# Altium schematic symbol library Capacitors.SchLib: 161 symbols (part 4 of 6)
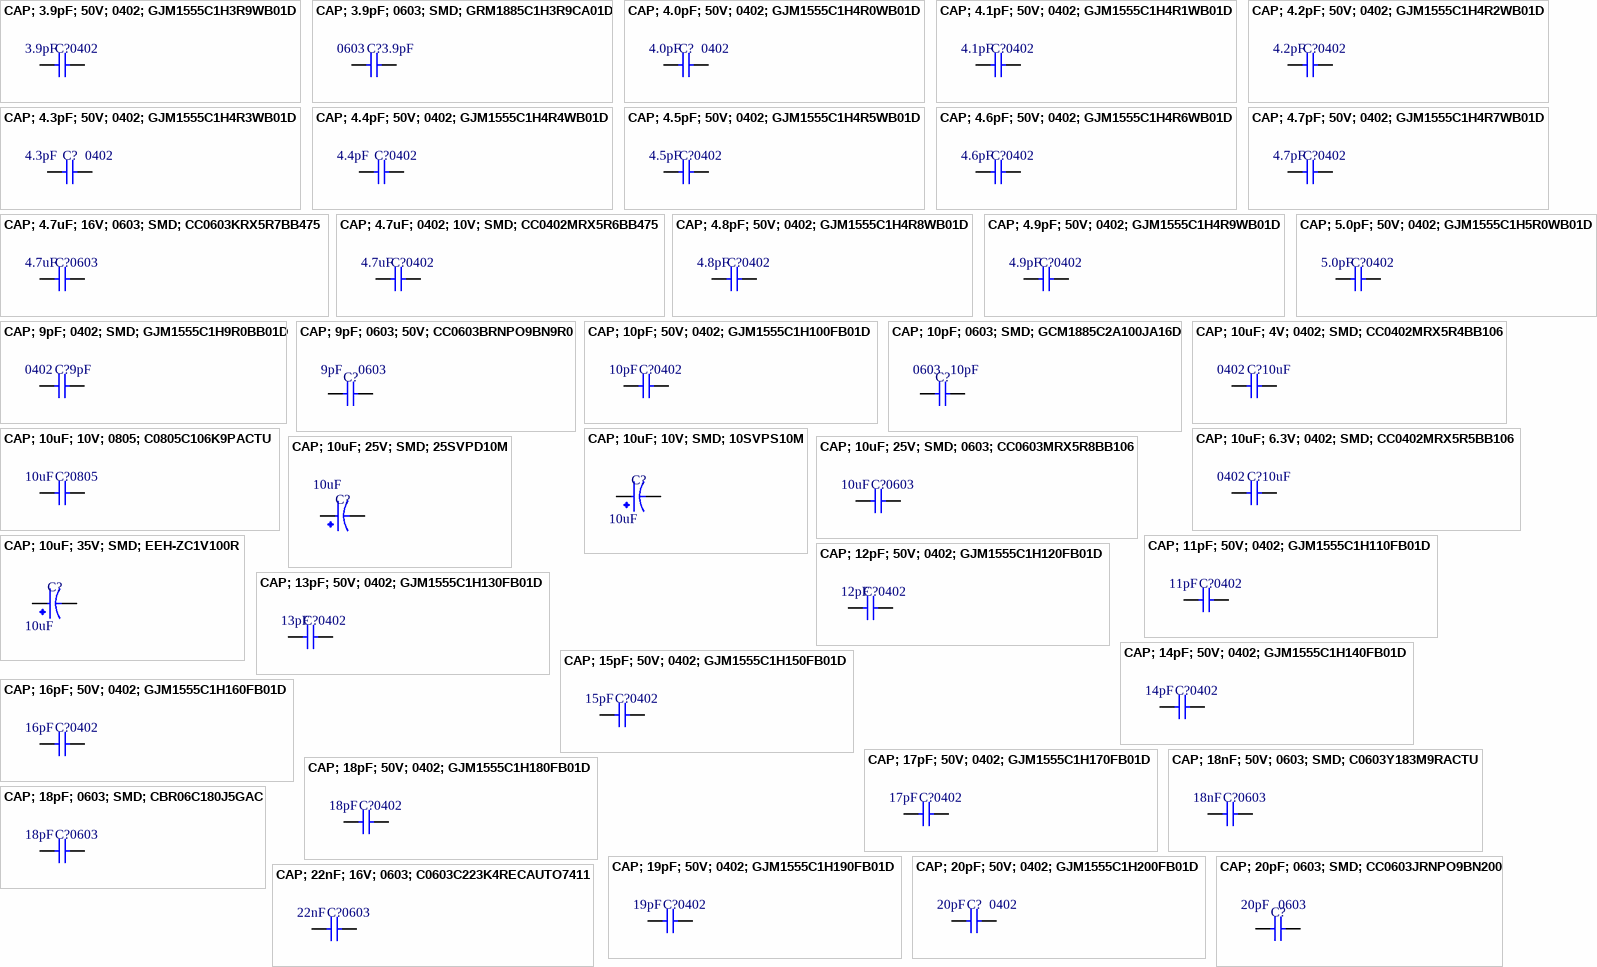
[diagram p7: symbols CAP; 3.9pF; 50V; 0402; GJM1555C1H3R9WB01D to CAP; 22nF; 16V; 0603; C0603C223K4RECAUTO7411]

## CAP; 10pF; 0603; SMD; GCM1885C2A100JA16D
designator C?, comment value 10pF  Package: 0603  (hidden comment: 10 pF ±5% 100V Ceramic Capacitor C0G, NP0 0603 (1608 Metric))
Multilayer Ceramic Capacitor, 10 pF, 100 V, ï¿½ 5%, C0G (NP0), 0603 [1608 Metric]; Manufacturer: Murata; Manufacturer Part Number: GCM1885C2A100JA16D; Material: 4241ConductorMaterial; Temperature Coefficient: 30ppm/°C; Supplier: Mouser; Supplier Part Number: 81-GCM1885C2A100JA6D; RoHS: Yes; Category: Ceramic Capacitors; Stock: 55413; Pricing: 1=0.1, 10=0.055, 50=0.055, 100=0.032, 1000=0.022, 10000=0.01 (USD); Voltage Rating (DC): 100V; Lead Free: 5697LeadFree; ComponentLink1URL: https://datasheet.ciiva.com/133/product-133480.pdf?src-supplier=Digikey; ComponentLink1Description: https://datasheet.ciiva.com/133/product-133480.pdf?src-supplier=Digikey; ComponentLink2URL: https://datasheet.ciiva.com/133/product-133481.pdf?src-supplier=Digikey; ComponentLink2Description: https://datasheet.ciiva.com/133/product-133481.pdf?src-supplier=Digikey; ComponentLink3URL: https://datasheet.ciiva.com/133/product-133482.pdf?src-supplier=Digikey; ComponentLink3Description: https://datasheet.ciiva.com/133/product-133482.pdf?src-supplier=Digikey; ComponentLink4URL: https://datasheet.ciiva.com/18183/getdatasheetpartid-307287-18183583.pdf?src-supplier=Verical; ComponentLink4Description: https://datasheet.ciiva.com/18183/getdatasheetpartid-307287-18183583.pdf?src-supplier=Verical; ComponentLink5URL: https://datasheet.ciiva.com/11607/product-11607353.pdf?src-supplier=Avnet; ComponentLink5Description: https://datasheet.ciiva.com/11607/product-11607353.pdf?src-supplier=Avnet
footprint SMD-CAP-0603-ME
pins: 1, 2

## CAP; 10uF; 4V; 0402; SMD; CC0402MRX5R4BB106
designator C?, comment value 10uF  Package: 0402  (hidden comment: 10 µF ±20% 4V Ceramic Capacitor X5R 0402 (1005 Metric))
Cap Ceramic 10uF 4V X5R 20% Pad SMD 0402 85C Automotive T/R; Manufacturer: Yageo; Manufacturer Part Number: CC0402MRX5R4BB106; Supplier: Mouser; Supplier Part Number: 603-CC0402MR4BB106; RoHS: Yes; Category: Ceramic Capacitors; Stock: 52723; Pricing: 1=0.13, 10=0.083, 50=0.083, 100=0.05, 1000=0.035, 10000=0.025 (USD); Mounting Technology: Surface Mount; Case/Package: 0402; Case Code (Imperial): 0402; Case Code (Metric): 1005; Min Operating Temperature: -55°C; Max Operating Temperature: 85°C; Packaging: Cut Tape; Voltage Rating: 4V; Tolerance: 20%; Series: CC; Length: 0.039inch; Width: 0.02inch; Thickness: 0.022inch; RoHS Compliant: Yes; ComponentLink1URL: http://www.yageo.com/documents/recent/UPY-GPHC_X5R_4V-to-50V_23.pdf?src-supplier=Digikey; ComponentLink1Description: http://www.yageo.com/documents/recent/UPY-GPHC_X5R_4V-to-50V_23.pdf?src-supplier=Digikey; ComponentLink2URL: http://www.yageo.com/documents/recent/UPY-GPHC_X5R_4V-to-50V_25.pdf?src-supplier=Digikey; ComponentLink2Description: http://www.yageo.com/documents/recent/UPY-GPHC_X5R_4V-to-50V_25.pdf?src-supplier=Digikey; ComponentLink3URL: https://datasheet.octopart.com/CC0402MRX5R4BB106-Yageo-datasheet-140260304.pdf?src-supplier=Newark; ComponentLink3Description: https://datasheet.octopart.com/CC0402MRX5R4BB106-Yageo-datasheet-140260304.pdf?src-supplier=Newark; ComponentLink4URL: https://datasheet.octopart.com/CC0402MRX5R4BB106-Yageo-datasheet-181967529.pdf?src-supplier=Farnell; ComponentLink4Description: https://datasheet.octopart.com/CC0402MRX5R4BB106-Yageo-datasheet-181967529.pdf?src-supplier=Farnell; ComponentLink5URL: https://datasheet.octopart.com/CC0402MRX5R4BB106-Yageo-datasheet-181967529.pdf?src-supplier=Element14; ComponentLink5Description: https://datasheet.octopart.com/CC0402MRX5R4BB106-Yageo-datasheet-181967529.pdf?src-supplier=Element14
footprint SMD-CAP-0402-YAGEO
pins: 1, 2

## CAP; 10uF; 6.3V; 0402; SMD; CC0402MRX5R5BB106
designator C?, comment value 10uF  Package: 0402  (hidden comment: 10 µF ±20% 6.3V Ceramic Capacitor X5R 0402 (1005 Metric))
0402 10 uF 6.3 V ±20 % Tolerance X5R SMT Multilayer Ceramic Capacitor; Manufacturer: Yageo; Manufacturer Part Number: CC0402MRX5R5BB106; Supplier: Arrow Electronics; Supplier Part Number: CC0402MRX5R5BB106; RoHS: Yes; Category: Ceramic Capacitors; Stock: 420000; Pricing: 100000=0.025 (USD); Mounting Technology: Surface Mount; Case/Package: 0402; Case Code (Metric): 1005; Case Code (Imperial): 0402; Weight: 2.3E-05oz; Min Operating Temperature: -55°C; Max Operating Temperature: 85°C; Tolerance: 20%; Packaging: Tape and Reel; Dielectric: X5R; Voltage Rating: 6.3V; Termination: SMD/SMT; Voltage Rating (DC): 6.3V; Package Quantity: 10000; Series: CC; Lead Free: Lead Free; Halogen Free: Halogen Free; RoHS Compliant: Yes; ComponentLink1URL: http://www.yageo.com/documents/recent/UPY-GPHC_X5R_4V-to-50V_25.pdf?src-supplier=Digikey; ComponentLink1Description: http://www.yageo.com/documents/recent/UPY-GPHC_X5R_4V-to-50V_25.pdf?src-supplier=Digikey; ComponentLink2URL: https://datasheet.octopart.com/CC0402MRX5R5BB106-Yageo-datasheet-140260304.pdf?src-supplier=Newark; ComponentLink2Description: https://datasheet.octopart.com/CC0402MRX5R5BB106-Yageo-datasheet-140260304.pdf?src-supplier=Newark; ComponentLink3URL: https://datasheet.octopart.com/CC0402MRX5R5BB106-Yageo-datasheet-137875056.pdf?src-supplier=Future+Electronics; ComponentLink3Description: https://datasheet.octopart.com/CC0402MRX5R5BB106-Yageo-datasheet-137875056.pdf?src-supplier=Future+Electronics; ComponentLink4URL: http://www.yageo.com/documents/recent/UPY-GPHC_X5R_4V-to-50V_25.pdf?src-supplier=Mouser; ComponentLink4Description: http://www.yageo.com/documents/recent/UPY-GPHC_X5R_4V-to-50V_25.pdf?src-supplier=Mouser; ComponentLink5URL: http://www.yageo.com/documents/recent/UPY-GPHC_X5R_4V-to-50V_25.pdf?src-supplier=TTI; ComponentLink5Description: http://www.yageo.com/documents/recent/UPY-GPHC_X5R_4V-to-50V_25.pdf?src-supplier=TTI
footprint SMD-CAP-0402-YAGEO
pins: 1, 2

## CAP; 10uF; 10V; 0805; C0805C106K9PACTU
designator C?, comment value 10uF  Package: 0805  (hidden comment: 10 µF ±10% 6.3V Ceramic Capacitor X5R 0805 (2012 Metric))
Multilayer Ceramic Capacitor, 10 uF, 6.3 V, ï¿½ 10%, X5R, 0805 [2012 Metric]; Manufacturer: KEMET; Manufacturer Part Number: C0805C106K9PACTU; Material: 4241ConductorMaterial; Dissipation Factor: 5%; Designer: TVBac; Supplier: Mouser; Supplier Part Number: 80-C0805C106K9P; RoHS: Yes; Category: Ceramic Capacitors; Stock: 133022; Pricing: 1=0.12, 10=0.074, 50=0.074, 100=0.044, 1000=0.033, 3000=0.026, 9000=0.025, 10000=0.025, 24000=0.023, 45000=0.022, 99000=0.019 (USD); Mounting Technology: Surface Mount; Case/Package: 0805; Pins: 2; Case Code (Imperial): 0805; Case Code (Metric): 2012; Contact Material: Tin; Dielectric Material: 4241ConductorMaterial; Min Operating Temperature: -55°C; Max Operating Temperature: 85°C; Tolerance: 10%; Packaging: Tape and Reel; Package Quantity: 3000; Voltage Rating: 6.3V; Voltage Rating (DC): 6.3V; Dielectric: X5R; Termination: SMD/SMT; Series: SMD Comm X5R; Construction: Flat; Voltage Rating (AC): 6.3V; Length: 2mm; Width: 1.2mm; Height: 1.25mm; Depth: 1.25mm; Lead Pitch: 0.75mm; Radiation Hardening: No; Reach SVHC Compliant: No; RoHS Compliant: Yes; Lead Free: 5697LeadFree; ComponentLink1URL: https://datasheet.ciiva.com/7842/kem-c1006-x5r-smd-7842200.pdf?src-supplier=Element14; ComponentLink1Description: https://datasheet.ciiva.com/7842/kem-c1006-x5r-smd-7842200.pdf?src-supplier=Element14; ComponentLink2URL: https://datasheet.ciiva.com/7842/kem-c1006-x5r-smd-7842201.pdf?src-supplier=Element14; ComponentLink2Description: https://datasheet.ciiva.com/7842/kem-c1006-x5r-smd-7842201.pdf?src-supplier=Element14; ComponentLink3URL: https://datasheet.ciiva.com/18193/getdatasheetpartid-320652-18193500.pdf?src-supplier=Verical; ComponentLink3Description: https://datasheet.ciiva.com/18193/getdatasheetpartid-320652-18193500.pdf?src-supplier=Verical; ComponentLink4Description: Link Digikey; ComponentLink4URL: https://www.digikey.com/en/products/detail/kemet/C0805C106K9PAC7800/551604
footprint SMD-CAP-0805-KEMET
pins: 1, 2

## CAP; 10uF; 10V; SMD; 10SVPS10M
designator C?, comment value 10uF  (hidden comment: 10 µF 10 V Aluminum - Polymer Capacitors Radial, Can - SMD 220mOhm 5000 Hrs @ 105°C)
Cap Aluminum Polymer 10uF 10VDC 20% (4 X 5.4mm) SMD 0.22 Ohm 700mA 5000h 105°C T/R; Manufacturer: Panasonic; Manufacturer Part Number: 10SVPS10M; Material: 4242ConductorMaterial; Voltage Rating (DC): 10V; Dissipation Factor: 10%; Leakage Current: 50uA; Designer: TVBac; Supplier: Digikey; Supplier Part Number: P19127CT-ND; RoHS: Yes; Category: Polymer Capacitors; Stock: 1082; Pricing: 1=1.34, 10=0.927, 50=0.836, 100=0.745, 500=0.594, 1000=0.525 (USD); Height: 5.5mm; ComponentLink1URL: https://datasheet.octopart.com/10SVPS10M-Panasonic-datasheet-66554731.pdf?src-supplier=Farnell; ComponentLink1Description: https://datasheet.octopart.com/10SVPS10M-Panasonic-datasheet-66554731.pdf?src-supplier=Farnell; ComponentLink2URL: https://industrial.panasonic.com/cdbs/www-data/pdf/AAB8000/AAB8000C232.pdf?src-supplier=Digikey; ComponentLink2Description: https://industrial.panasonic.com/cdbs/www-data/pdf/AAB8000/AAB8000C232.pdf?src-supplier=Digikey; ComponentLink3URL: https://industrial.panasonic.com/cdbs/www-data/pdf/AAB8000/AAB8000COL87.pdf?src-supplier=Digikey; ComponentLink3Description: https://industrial.panasonic.com/cdbs/www-data/pdf/AAB8000/AAB8000COL87.pdf?src-supplier=Digikey; ComponentLink4URL: https://datasheet.octopart.com/10SVPS10M-Panasonic-datasheet-136608599.pdf?src-supplier=Element14; ComponentLink4Description: https://datasheet.octopart.com/10SVPS10M-Panasonic-datasheet-136608599.pdf?src-supplier=Element14; ComponentLink5URL: https://datasheet.octopart.com/10SVPS10M-Panasonic-datasheet-46913367.pdf?src-supplier=Newark; ComponentLink5Description: https://datasheet.octopart.com/10SVPS10M-Panasonic-datasheet-46913367.pdf?src-supplier=Newark
footprint SMD-DxLxW-4.0x4.3x4.3-PEC
pins: 1, 2

## CAP; 10uF; 25V; SMD; 25SVPD10M
designator C?, comment value 10uF  (hidden comment: 10 µF 25 V Aluminum - Polymer Capacitors Radial, Can - SMD 65mOhm 2000 Hrs @ 125°C)
Cap Aluminum Polymer 10uF 25VDC 20% (6.3 X 5.9mm) SMD 0.065 Ohm 474mA 2000h 125C Automotive T/R; Manufacturer: Panasonic; Manufacturer Part Number: 25SVPD10M; Dielectric Material: Aluminium; Voltage Rating: 25V; ESR (Equivalent Series Resistance): 65mR; Leakage Current: 50uA; Life (Hours): 2000Hour; Dissipation Factor: 10%; Designer: TVBac; Supplier: Digikey; Supplier Part Number: PCE5077CT-ND; RoHS: Yes; Category: Polymer Capacitors; Stock: 2340; Pricing: 1=1.63, 10=1.033, 50=0.7914, 100=0.7159, 500=0.5873 (USD); Mounting Technology: Surface Mount; Case/Package: Radial; Pins: 6; Material: Polymer; Min Operating Temperature: -55°C; Max Operating Temperature: 125°C; Package Quantity: 1000; Packaging: Tape and Reel; Voltage: 25V; Termination: SMD/SMT; Tolerance: 20%; Voltage Rating (DC): 25V; Series: SVPD; Construction: Cylindrical; Diameter: 6.3mm; Length: 5.9mm; Width: 6.6mm; Height: 6.6mm; Lead Pitch: 2.1mm; Reach SVHC Compliant: No; RoHS Compliant: Yes; ComponentLink1URL: http://www.farnell.com/datasheets/1950074.pdf?src-supplier=Farnell; ComponentLink1Description: http://www.farnell.com/datasheets/1950074.pdf?src-supplier=Farnell; ComponentLink2URL: http://www.mouser.com/ds/2/315/Panasonic_Oscon_SVPD_Series-341062.pdf?src-supplier=Mouser; ComponentLink2Description: http://www.mouser.com/ds/2/315/Panasonic_Oscon_SVPD_Series-341062.pdf?src-supplier=Mouser; ComponentLink3URL: http://industrial.panasonic.com/cdbs/www-data/pdf/AAB8000/AAB8000C181.pdf?src-supplier=Digikey; ComponentLink3Description: http://industrial.panasonic.com/cdbs/www-data/pdf/AAB8000/AAB8000C181.pdf?src-supplier=Digikey; ComponentLink4URL: https://datasheet.octopart.com/25SVPD10M-Panasonic-datasheet-46913366.pdf?src-supplier=Newark; ComponentLink4Description: https://datasheet.octopart.com/25SVPD10M-Panasonic-datasheet-46913366.pdf?src-supplier=Newark; ComponentLink5URL: http://www.farnell.com/datasheets/1950074.pdf?src-supplier=Element14; ComponentLink5Description: http://www.farnell.com/datasheets/1950074.pdf?src-supplier=Element14; ComponentLink6URL: https://datasheet.octopart.com/25SVPD10M-Panasonic-datasheet-151949919.pdf?src-supplier=TME; ComponentLink6Description: https://datasheet.octopart.com/25SVPD10M-Panasonic-datasheet-151949919.pdf?src-supplier=TME; ComponentLink7Description: Link Digikey; ComponentLink7URL: https://www.digikey.com/en/products/detail/panasonic-electronic-components/25SVPD10M/4833023
footprint SMD-DxLxW-6.3x6.6x6.6-PEC
pins: 1, 2

## CAP; 10uF; 25V; SMD; 0603; CC0603MRX5R8BB106
designator C?, comment value 10uF  Package: 0603  (hidden comment: 10 µF ±20% 25V Ceramic Capacitor X5R 0603 (1608 Metric))
Multilayer Ceramic Capacitor, 10 uF, 25 V, ï¿½ 20%, X5R, 0603 [1608 Metric]; Manufacturer: Yageo; Manufacturer Part Number: CC0603MRX5R8BB106; Designer: TVBac; Supplier: Future Electronics; Supplier Part Number: 3086968; RoHS: Yes; Category: Ceramic Capacitors; Stock: 296000; Pricing: 4000=0.155, 8000=0.153, 12000=0.151 (USD); Mounting Technology: Surface Mount; Case/Package: 0603; Case Code (Imperial): 0603; Case Code (Metric): 1608; Min Operating Temperature: -55°C; Max Operating Temperature: 85°C; Packaging: Cut Tape; Tolerance: 20%; Voltage Rating: 25V; Series: CC; Dielectric: X5R; Voltage Rating (DC): 25V; RoHS Compliant: Yes; Halogen Free: Halogen Free; Lead Free: Lead Free; ComponentLink1URL: https://www.yageo.com/upload/media/product/productsearch/datasheet/mlcc/UPY-GPHC_X5R_4V-to-50V_26.pdf?src-supplier=Digikey; ComponentLink1Description: https://www.yageo.com/upload/media/product/productsearch/datasheet/mlcc/UPY-GPHC_X5R_4V-to-50V_26.pdf?src-supplier=Digikey; ComponentLink2URL: https://datasheet.octopart.com/CC0603MRX5R8BB106-Yageo-datasheet-182965619.pdf?src-supplier=Farnell; ComponentLink2Description: https://datasheet.octopart.com/CC0603MRX5R8BB106-Yageo-datasheet-182965619.pdf?src-supplier=Farnell; ComponentLink3Description: Link Digikey; ComponentLink3URL: https://www.digikey.com/en/products/detail/yageo/CC0603MRX5R8BB106/7164378
footprint SMD-CAP-0603-YAGEO
pins: 1, 2

## CAP; 10uF; 35V; SMD; EEH-ZC1V100R
designator C?, comment value 10uF  (hidden comment: 10 µF 35 V Aluminum - Polymer Capacitors Radial, Can - SMD 100mOhm 4000 Hrs @ 125°C)
Cap Aluminum Polymer 10uF 35V 20% Cylindrical 100m Ohm 550mA 4000 hr 125°C Emboss T/R; Manufacturer: Panasonic; Manufacturer Part Number: EEH-ZC1V100R; Designer: TVBac; Supplier: Digikey; Supplier Part Number: 10-EEH-ZC1V100RCT-ND; RoHS: Yes; Stock: 1875; Pricing: 1=1.23, 10=0.922, 50=0.8414, 100=0.6893, 500=0.55016 (USD); RoHS Compliant: Yes; ComponentLink1URL: https://na.industrial.panasonic.com/file-download/51?src-supplier=Digikey; ComponentLink1Description: https://na.industrial.panasonic.com/file-download/51?src-supplier=Digikey; ComponentLink2URL: https://datasheet.octopart.com/EEHZC1V100R-Panasonic-datasheet-137716606.pdf?src-supplier=TME; ComponentLink2Description: https://datasheet.octopart.com/EEHZC1V100R-Panasonic-datasheet-137716606.pdf?src-supplier=TME; ComponentLink3Description: Link Digikey; ComponentLink3URL: https://www.digikey.com/en/products/detail/panasonic-electronic-components/EEH-ZC1V100R/10292388
footprint SMD-DxLxW-5.0x5.3x5.3-PEC
pins: 1, 2

## CAP; 11pF; 50V; 0402; GJM1555C1H110FB01D
designator C?, comment value 11pF  Package: 0402  (hidden comment: Cap Ceramic Monolithic 11pF 50VDC 1% SMD Paper T/R)
Manufacturer: Murata; Manufacturer Part Number: GJM1555C1H110FB01D; Supplier: Mouser; Supplier Part Number: 81-GJM1555C1H110FB1D; RoHS: Yes; Category: Ceramic Capacitors; Stock: 9932; Pricing: 1=0.12, 10=0.075, 50=0.075, 100=0.046, 1000=0.03, 10000=0.02 (USD)
footprint SMD-CAP-0402-ME
pins: 1, 2

## CAP; 12pF; 50V; 0402; GJM1555C1H120FB01D
designator C?, comment value 12pF  Package: 0402  (hidden comment: Multilayer Ceramic Capacitor, 12 pF, 50 V, ï¿½ 1%, C0G (NP0), 0402 [1005 Metric])
Manufacturer: Murata; Manufacturer Part Number: GJM1555C1H120FB01D; Material: 4241ConductorMaterial; Temperature Coefficient: 30ppm/°C; Supplier: Digikey; Supplier Part Number: 490-11190-1-ND; RoHS: Yes; Category: Ceramic Capacitors; Stock: 8107339; Pricing: 1=0.15, 10=0.087, 100=0.0531, 1000=0.03581, 2500=0.03154, 5000=0.02896, 10000=0.02106, 20000=0.01969, 30000=0.01901, 50000=0.01825, 70000=0.01781, 100000=0.0175 (USD); ComponentLink1URL: https://datasheet.ciiva.com/5433/product-5433927.pdf?src-supplier=Mouser; ComponentLink1Description: https://datasheet.ciiva.com/5433/product-5433927.pdf?src-supplier=Mouser; ComponentLink2URL: https://datasheet.ciiva.com/11608/c02e-11608281.pdf?src-supplier=Avnet; ComponentLink2Description: https://datasheet.ciiva.com/11608/c02e-11608281.pdf?src-supplier=Avnet
footprint SMD-CAP-0402-ME
pins: 1, 2

## CAP; 13pF; 50V; 0402; GJM1555C1H130FB01D
designator C?, comment value 13pF  Package: 0402  (hidden comment: Cap Ceramic Monolithic 13pF 50VDC 1% SMD Paper T/R)
Manufacturer: Murata; Manufacturer Part Number: GJM1555C1H130FB01D; Supplier: Mouser; Supplier Part Number: 81-GJM1555C1H130FB1D; RoHS: Yes; Category: Ceramic Capacitors; Stock: 8471; Pricing: 1=0.12, 10=0.07, 50=0.07, 100=0.046, 1000=0.03, 10000=0.02 (USD); ComponentLink1URL: https://datasheet.octopart.com/GJM1555C1H130FB01D-Murata-datasheet-12511495.pdf?src-supplier=TME; ComponentLink1Description: https://datasheet.octopart.com/GJM1555C1H130FB01D-Murata-datasheet-12511495.pdf?src-supplier=TME
footprint SMD-CAP-0402-ME
pins: 1, 2

## CAP; 14pF; 50V; 0402; GJM1555C1H140FB01D
designator C?, comment value 14pF  Package: 0402  (hidden comment: Cap Ceramic Monolithic 14pF 50VDC 1% SMD Paper T/R)
Manufacturer: Murata; Manufacturer Part Number: GJM1555C1H140FB01D; Supplier: Mouser; Supplier Part Number: 81-GJM1555C1H140FB1D; RoHS: Yes; Category: Ceramic Capacitors; Stock: 11264; Pricing: 1=0.12, 10=0.072, 50=0.072, 100=0.046, 500=0.039, 1000=0.03, 2500=0.026, 10000=0.02, 50000=0.019 (USD); ComponentLink1URL: https://datasheet.octopart.com/GJM1555C1H140FB01D-Murata-datasheet-12511495.pdf?src-supplier=TME; ComponentLink1Description: https://datasheet.octopart.com/GJM1555C1H140FB01D-Murata-datasheet-12511495.pdf?src-supplier=TME
footprint SMD-CAP-0402-ME
pins: 1, 2

## CAP; 15pF; 50V; 0402; GJM1555C1H150FB01D
designator C?, comment value 15pF  Package: 0402  (hidden comment: Multilayer Ceramic Capacitor, 15 pF, 50 V, ± 1%, C0G (NP0), 0402 [1005 Metric])
Manufacturer: Murata; Manufacturer Part Number: GJM1555C1H150FB01D; Material: 4241ConductorMaterial; Temperature Coefficient: 30ppm/°C; Supplier: Future Electronics; Supplier Part Number: 1113499; RoHS: Yes; Category: Ceramic Capacitors; Stock: 10000; Pricing: 10000=0.0152, 20000=0.0149, 30000=0.0148, 50000=0.0146, 100000=0.0143 (USD); ComponentLink1URL: https://datasheet.ciiva.com/11608/c02e-11608383.pdf?src-supplier=Avnet; ComponentLink1Description: https://datasheet.ciiva.com/11608/c02e-11608383.pdf?src-supplier=Avnet
footprint SMD-CAP-0402-ME
pins: 1, 2

## CAP; 16pF; 50V; 0402; GJM1555C1H160FB01D
designator C?, comment value 16pF  Package: 0402  (hidden comment: Cap Ceramic Monolithic 16pF 50VDC 1% SMD Paper T/R)
Manufacturer: Murata; Manufacturer Part Number: GJM1555C1H160FB01D; Material: 4241ConductorMaterial; Temperature Coefficient: 30ppm/°C; Voltage Rating: 50V; Supplier: Mouser; Supplier Part Number: 81-GJM1555C1H160FB1D; RoHS: Yes; Category: Ceramic Capacitors; Stock: 12181; Pricing: 1=0.12, 10=0.07, 50=0.07, 100=0.046, 1000=0.03, 10000=0.02 (USD); Case/Package: 343Case; Min Operating Temperature: -55°C; Max Operating Temperature: 125°C; Tolerance: 1%; Voltage Rating (DC): 50V; Length: 1mm; Width: 500um; Height: 550um; Thickness: 500um
footprint SMD-CAP-0402-ME
pins: 1, 2

## CAP; 17pF; 50V; 0402; GJM1555C1H170FB01D
designator C?, comment value 17pF  Package: 0402  (hidden comment: Multilayer Ceramic Capacitor, 17 pF, 50 V, ± 1%, C0G (NP0), 0402 [1005 Metric])
Manufacturer: Murata; Manufacturer Part Number: GJM1555C1H170FB01D; Supplier: Mouser; Supplier Part Number: 81-GJM1555C1H170FB1D; RoHS: Yes; Category: Ceramic Capacitors; Stock: 23070; Pricing: 1=0.12, 10=0.072, 50=0.072, 100=0.046, 1000=0.03, 10000=0.021 (USD)
footprint SMD-CAP-0402-ME
pins: 1, 2

## CAP; 18nF; 50V; 0603; SMD; C0603Y183M9RACTU
designator C?, comment value 18nF  Package: 0603  (hidden comment: 18 pF ±5% 50V Ceramic Capacitor C0G, NP0 0603 (1608 Metric))
Fail-Safe Floating Electrode SMD Ceramic Capacitors Flexable Termination 6.3volts 18000pF 20% X7R; Manufacturer: KEMET; Manufacturer Part Number: C0603Y183M9RACTU; Voltage Rating: 6.3V; Designer: TVBac; Supplier: Digikey; Supplier Part Number: 399-C0603Y183M9RACTUTR-ND; RoHS: Yes; Category: Capacitors; Pricing: 4000=0.07471 (USD); Case/Package: 0603; Case Code (Imperial): 0603; Case Code (Metric): 1608; Dielectric Material: Ceramic; Min Operating Temperature: -55°C; Max Operating Temperature: 125°C; Packaging: Tape and Reel; Tolerance: 20%; Termination: SMD/SMT; Package Quantity: 4000; Voltage Rating (DC): 6.3V; RoHS Compliant: Yes; ComponentLink1URL: http://www.mouser.com/ds/2/212/KEM_C1015_X7R_FF-CAP_SMD-1101148.pdf?src-supplier=Mouser; ComponentLink1Description: http://www.mouser.com/ds/2/212/KEM_C1015_X7R_FF-CAP_SMD-1101148.pdf?src-supplier=Mouser
footprint SMD-CAP-0603-KEMET
pins: 1, 2

## CAP; 18pF; 50V; 0402; GJM1555C1H180FB01D
designator C?, comment value 18pF  Package: 0402  (hidden comment: Multilayer Ceramic Capacitor, 18 pF, 50 V, ï¿½ 1%, C0G (NP0), 0402 [1005 Metric])
Manufacturer: Murata; Manufacturer Part Number: GJM1555C1H180FB01D; Material: 4241ConductorMaterial; Temperature Coefficient: 30ppm/°C; Supplier: Mouser; Supplier Part Number: 81-GJM1555C1H180FB1D; RoHS: Yes; Category: Ceramic Capacitors; Stock: 88447; Pricing: 1=0.12, 10=0.075, 50=0.075, 100=0.051, 1000=0.048, 10000=0.04 (USD); Lead Free: 5697LeadFree; ComponentLink1URL: https://datasheet.ciiva.com/11607/c02e-11607834.pdf?src-supplier=Avnet; ComponentLink1Description: https://datasheet.ciiva.com/11607/c02e-11607834.pdf?src-supplier=Avnet
footprint SMD-CAP-0402-ME
pins: 1, 2

## CAP; 18pF; 0603; SMD; CBR06C180J5GAC
designator C?, comment value 18pF  Package: 0603  (hidden comment: 18 pF ±5% 50V Ceramic Capacitor C0G, NP0 0603 (1608 Metric))
Cap Ceramic 18pF 50V C0G 5% SMD 0603 125°C Paper T/R; Manufacturer: KEMET; Manufacturer Part Number: CBR06C180J5GAC; Designer: TVBac; Supplier: Mouser; Supplier Part Number: 80-CBR06C180J5G; RoHS: Yes; Category: Ceramic Capacitors; Stock: 3594; Pricing: 1=0.15, 10=0.088, 50=0.088, 100=0.057, 1000=0.04, 10000=0.027 (USD); Mounting Technology: Surface Mount; Case/Package: 0603; Case Code (Metric): 1608; Case Code (Imperial): 0603; Weight: 7.1E-05oz; Min Operating Temperature: -55°C; Max Operating Temperature: 125°C; Package Quantity: 4000; Voltage Rating: 50V; Tolerance: 5%; Packaging: Tape and Reel; Voltage Rating (DC): 50V; Dielectric: C0G; Termination: SMD/SMT; Series: CBR-SMD RF C0G; Length: 1.6mm; Width: 0.8mm; Height: 0.8mm; RoHS Compliant: Yes; ComponentLink1URL: http://www.mouser.com/ds/2/212/KEM_C1030_CBR_SMD-1101233.pdf?src-supplier=Mouser; ComponentLink1Description: http://www.mouser.com/ds/2/212/KEM_C1030_CBR_SMD-1101233.pdf?src-supplier=Mouser; ComponentLink2URL: https://search.kemet.com/component-edge/download/datasheet/CBR06C180J5GAC.pdf?src-supplier=Digikey; ComponentLink2Description: https://search.kemet.com/component-edge/download/datasheet/CBR06C180J5GAC.pdf?src-supplier=Digikey
footprint SMD-CAP-0603-KEMET
pins: 1, 2

## CAP; 19pF; 50V; 0402; GJM1555C1H190FB01D
designator C?, comment value 19pF  Package: 0402  (hidden comment: Cap Ceramic Monolithic 19pF 50VDC 1% SMD Paper T/R)
Manufacturer: Murata; Manufacturer Part Number: GJM1555C1H190FB01D; Supplier: Mouser; Supplier Part Number: 81-GJM1555C1H190FB1D; RoHS: Yes; Category: Ceramic Capacitors; Stock: 20531; Pricing: 1=0.12, 10=0.076, 50=0.076, 100=0.046, 1000=0.03, 10000=0.024 (USD)
footprint SMD-CAP-0402-ME
pins: 1, 2

## CAP; 20pF; 50V; 0402; GJM1555C1H200FB01D
designator C?, comment value 20pF  Package: 0402  (hidden comment: 0402 20 pF 50 V ±1% Tolerance C0G/NP0 Surface Mount Multilayer Ceramic Capacitor)
Manufacturer: Murata; Manufacturer Part Number: GJM1555C1H200FB01D; Voltage Rating: 50V; Dielectric: C0G; Supplier: Mouser; Supplier Part Number: 81-GJM1555C1H200FB1D; RoHS: Yes; Category: Ceramic Capacitors; Stock: 33354; Pricing: 1=0.12, 10=0.07, 50=0.07, 100=0.046, 1000=0.03, 10000=0.023 (USD); Mounting Technology: Surface Mount; Case/Package: 0402; Case Code (Imperial): 0402; Case Code (Metric): 1005; Min Operating Temperature: -55°C; Max Operating Temperature: 125°C; Voltage Rating (DC): 50V; Tolerance: 1%; Packaging: Tape and Reel; Package Quantity: 10000; Termination: SMD/SMT; Series: GJM; Construction: Flat; Length: 1mm; Width: 0.02inch; Height: 0.5mm; Thickness: 0.022inch; Depth: 0.5mm; Radiation Hardening: No; RoHS Compliant: Yes; ComponentLink1URL: http://www.farnell.com/datasheets/2867762.pdf?src-supplier=Farnell; ComponentLink1Description: http://www.farnell.com/datasheets/2867762.pdf?src-supplier=Farnell; ComponentLink2URL: http://www.mouser.com/ds/2/281/c02e-2905.pdf?src-supplier=Mouser; ComponentLink2Description: http://www.mouser.com/ds/2/281/c02e-2905.pdf?src-supplier=Mouser; ComponentLink3URL: http://www.farnell.com/datasheets/2867762.pdf?src-supplier=Element14; ComponentLink3Description: http://www.farnell.com/datasheets/2867762.pdf?src-supplier=Element14; ComponentLink4URL: https://datasheet.octopart.com/GJM1555C1H200FB01D-Murata-datasheet-96711497.pdf?src-supplier=Element14; ComponentLink4Description: https://datasheet.octopart.com/GJM1555C1H200FB01D-Murata-datasheet-96711497.pdf?src-supplier=Element14; ComponentLink5URL: http://search.murata.co.jp/Ceramy/image/img/A01X/G101/ENG/GJM1555C1H200FB01-01.pdf?src-supplier=Digikey; ComponentLink5Description: http://search.murata.co.jp/Ceramy/image/img/A01X/G101/ENG/GJM1555C1H200FB01-01.pdf?src-supplier=Digikey; ComponentLink6URL: http://www.farnell.com/datasheets/2867762.pdf?src-supplier=Newark; ComponentLink6Description: http://www.farnell.com/datasheets/2867762.pdf?src-supplier=Newark; ComponentLink7URL: http://www.murata.com/products/catalog/pdf/c02e.pdf?src-supplier=Avnet; ComponentLink7Description: http://www.murata.com/products/catalog/pdf/c02e.pdf?src-supplier=Avnet; ComponentLink8URL: https://datasheet.octopart.com/GJM1555C1H200FB01D-Murata-datasheet-12511495.pdf?src-supplier=TME; ComponentLink8Description: https://datasheet.octopart.com/GJM1555C1H200FB01D-Murata-datasheet-12511495.pdf?src-supplier=TME
footprint SMD-CAP-0402-ME
pins: 1, 2

## CAP; 20pF; 0603; SMD; CC0603JRNPO9BN200
designator C?, comment value 20pF  Package: 0603  (hidden comment: 20 pF ±5% 50V Ceramic Capacitor C0G, NP0 0603 (1608 Metric))
Multilayer Ceramic Capacitor, 20 pF, 50 V, ï¿½ 5%, C0G (NP0), 0603 [1608 Metric]; Manufacturer: Yageo; Manufacturer Part Number: CC0603JRNPO9BN200; Material: 4241ConductorMaterial; Temperature Coefficient: 30ppm/°C; Supplier: Future Electronics; Supplier Part Number: 9802729; RoHS: Yes; Category: Ceramic Capacitors; Stock: 28000; Pricing: 4000=0.0034, 16000=0.0033, 60000=0.0031, 120000=0.0031, 300000=0.0029 (USD); Height: 900um; Halogen Free: 5694HalogenFree; Lead Free: 5697LeadFree; ComponentLink1URL: https://datasheet.ciiva.com/176/mlccorderingcode-176538.pdf?src-supplier=Digikey; ComponentLink1Description: https://datasheet.ciiva.com/176/mlccorderingcode-176538.pdf?src-supplier=Digikey; ComponentLink2URL: https://datasheet.ciiva.com/176/mlccorderingcode-176539.pdf?src-supplier=Digikey; ComponentLink2Description: https://datasheet.ciiva.com/176/mlccorderingcode-176539.pdf?src-supplier=Digikey; ComponentLink3URL: https://datasheet.ciiva.com/176/mlccorderingcode-176540.pdf?src-supplier=Digikey; ComponentLink3Description: https://datasheet.ciiva.com/176/mlccorderingcode-176540.pdf?src-supplier=Digikey; ComponentLink4URL: https://datasheet.ciiva.com/7978/1132289-7978134.pdf?src-supplier=Element14; ComponentLink4Description: https://datasheet.ciiva.com/7978/1132289-7978134.pdf?src-supplier=Element14
footprint SMD-CAP-0603-YAGEO
pins: 1, 2

## CAP; 22nF; 16V; 0603; C0603C223K4RECAUTO7411
designator C?, comment value 22nF  Package: 0603  (hidden comment: 0.022 µF ±10% 16V Ceramic Capacitor X7R 0603 (1608 Metric))
Cap Cer 0603 22NF 16V X7R 10%; Manufacturer: KEMET; Manufacturer Part Number: C0603C223K4RECAUTO7411; Supplier: Digikey; Supplier Part Number: C0603C223K4RECAUTO7411-ND; RoHS: Yes; Category: Ceramic Capacitors; Pricing: 15000=0.0158 (USD); RoHS Compliant: Yes; ComponentLink1URL: https://api.kemet.com/component-edge/download/datasheet/C0603C223K4RECAUTO7411.pdf?src-supplier=Digikey; ComponentLink1Description: https://api.kemet.com/component-edge/download/datasheet/C0603C223K4RECAUTO7411.pdf?src-supplier=Digikey
footprint SMD-CAP-0603-KEMET
pins: 1, 2

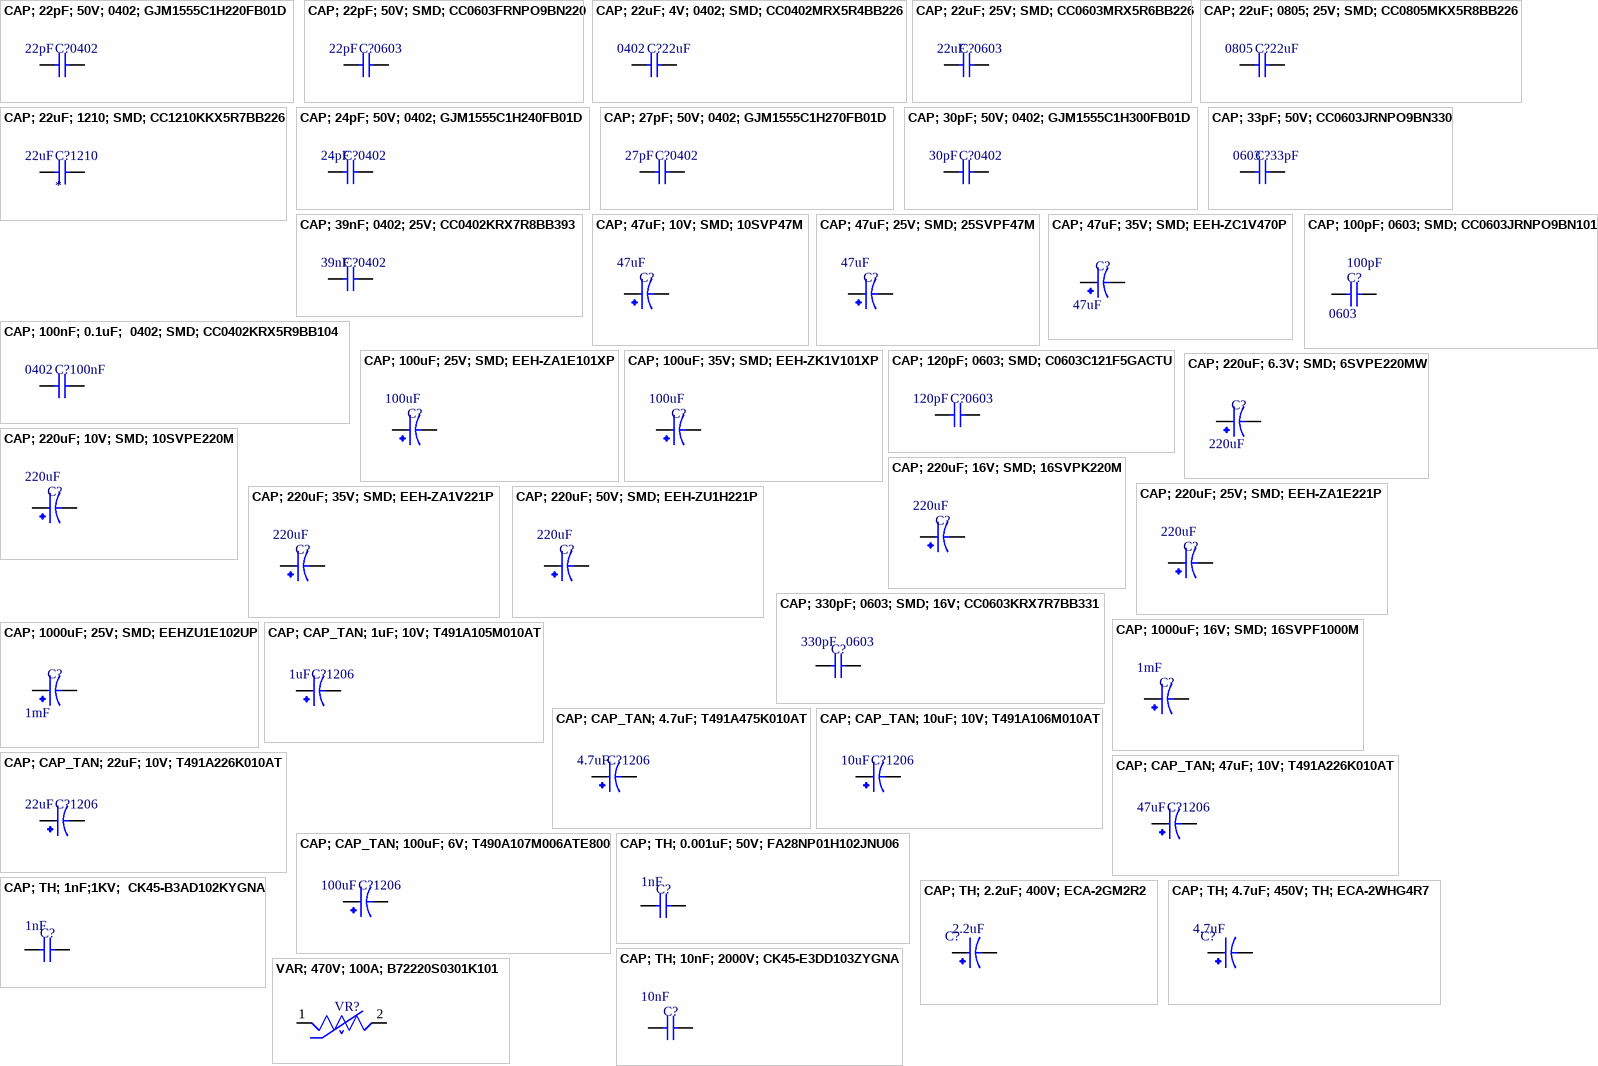
[diagram p3: symbols CAP; 22pF; 50V; 0402; GJM1555C1H220FB01D to VAR; 470V; 100A; B72220S0301K101]

## CAP; 22pF; 50V; 0402; GJM1555C1H220FB01D
designator C?, comment value 22pF  Package: 0402  (hidden comment: Multilayer Ceramic Capacitor, 22 pF, 50 V, ï¿½ 1%, C0G (NP0), 0402 [1005 Metric])
Manufacturer: Murata; Manufacturer Part Number: GJM1555C1H220FB01D; Material: 4241ConductorMaterial; Temperature Coefficient: 30ppm/°C; Voltage Rating: 50V; Dielectric: 1510DielectricType; Supplier: Mouser; Supplier Part Number: 81-GJM1555C1H220FB1D; RoHS: Yes; Category: Ceramic Capacitors; Stock: 28893; Pricing: 1=0.12, 10=0.075, 50=0.075, 100=0.045, 1000=0.042, 10000=0.023 (USD); Case/Package: 343Case; Min Operating Temperature: -55°C; Max Operating Temperature: 125°C; Voltage Rating (DC): 50V; Tolerance: 1%; Length: 1mm; Width: 500um; Height: 550um; Thickness: 500um; ComponentLink1URL: https://search.murata.co.jp/Ceramy/image/img/A01X/G101/ENG/GJM1555C1H220FB01-01.pdf?src-supplier=Digikey; ComponentLink1Description: https://search.murata.co.jp/Ceramy/image/img/A01X/G101/ENG/GJM1555C1H220FB01-01.pdf?src-supplier=Digikey; ComponentLink2URL: https://datasheet.octopart.com/GJM1555C1H220FB01D-Murata-datasheet-12511495.pdf?src-supplier=TME; ComponentLink2Description: https://datasheet.octopart.com/GJM1555C1H220FB01D-Murata-datasheet-12511495.pdf?src-supplier=TME
footprint SMD-CAP-0402-ME
pins: 1, 2

## CAP; 22pF; 50V; SMD; CC0603FRNPO9BN220
designator C?, comment value 22pF  Package: 0603  (hidden comment: 22 pF ±1% 50V Ceramic Capacitor C0G, NP0 0603 (1608 Metric))
Multilayer Ceramic Capacitor, 22 pF, 50 V, ï¿½ 1%, C0G (NP0), 0603 [1608 Metric]; Manufacturer: Yageo; Manufacturer Part Number: CC0603FRNPO9BN220; Designer: TVBac; Supplier: Future Electronics; Supplier Part Number: 1000074; RoHS: Yes; Category: Ceramic Capacitors; Stock: 144000; Pricing: 4000=0.0159, 12000=0.0156, 20000=0.0154, 80000=0.0149, 120000=0.0147 (USD); Lead Free: 5697LeadFree; Halogen Free: 5694HalogenFree; ComponentLink1URL: https://datasheet.ciiva.com/13211/upy-gp-np0-16v-to-50v-8-13211061.pdf?src-supplier=Mouser; ComponentLink1Description: https://datasheet.ciiva.com/13211/upy-gp-np0-16v-to-50v-8-13211061.pdf?src-supplier=Mouser; ComponentLink2Description: Link Digikey; ComponentLink2URL: https://www.digikey.com/en/products/detail/yageo/CC0603FRNPO9BN220/5883497
footprint SMD-CAP-0603-YAGEO
pins: 1, 2

## CAP; 22uF; 4V; 0402; SMD; CC0402MRX5R4BB226
designator C?, comment value 22uF  Package: 0402  (hidden comment: 22 µF ±20% 4V Ceramic Capacitor X5R 0402 (1005 Metric))
Cap Ceramic 22uF 4V X5R 20% Pad SMD 0402 85C T/R; Manufacturer: Yageo; Manufacturer Part Number: CC0402MRX5R4BB226; Supplier: Mouser; Supplier Part Number: 603-CC0402MRX54BB226; RoHS: Yes; Category: Ceramic Capacitors; Stock: 9944; Pricing: 1=0.47, 10=0.312, 50=0.312, 100=0.188, 1000=0.139, 10000=0.11 (USD); Mounting Technology: Surface Mount; Case/Package: 0402; Case Code (Imperial): 0402; Case Code (Metric): 1005; Min Operating Temperature: -55°C; Max Operating Temperature: 85°C; Packaging: Tape and Reel; Tolerance: 20%; Voltage Rating: 4V; ComponentLink1URL: http://www.yageo.com/documents/recent/UPY-GPHC_X5R_4V-to-50V_25.pdf?src-supplier=Digikey; ComponentLink1Description: http://www.yageo.com/documents/recent/UPY-GPHC_X5R_4V-to-50V_25.pdf?src-supplier=Digikey
footprint SMD-CAP-0402-YAGEO
pins: 1, 2

## CAP; 22uF; 25V; SMD; CC0603MRX5R6BB226
designator C?, comment value 22uF  Package: 0603  (hidden comment: 22 µF ±20% 10V Ceramic Capacitor X5R 0603 (1608 Metric))
Multilayer Ceramic Capacitor, 22 uF, 10 V, ï¿½ 20%, X5R, 0603 [1608 Metric]; Manufacturer: Yageo; Manufacturer Part Number: CC0603MRX5R6BB226; Designer: TVBac; Supplier: Future Electronics; Supplier Part Number: 9078094; RoHS: No; Category: Ceramic Capacitors; Stock: 780000; Pricing: 4000=0.122, 8000=0.12, 12000=0.119, 16000=0.118 (USD); Lead Free: 5697LeadFree; Halogen Free: 5694HalogenFree; RoHS Compliant: 5897YesNo; ComponentLink1URL: http://www.mouser.com/ds/2/447/Yageo_UPY-GP_NP0_16V-to-50V_9-358835.pdf?src-supplier=Mouser; ComponentLink1Description: http://www.mouser.com/ds/2/447/Yageo_UPY-GP_NP0_16V-to-50V_9-358835.pdf?src-supplier=Mouser; ComponentLink2URL: http://www.yageo.com/documents/recent/UPY-GPHC_X5R_4V-to-50V_25.pdf?src-supplier=Digikey; ComponentLink2Description: http://www.yageo.com/documents/recent/UPY-GPHC_X5R_4V-to-50V_25.pdf?src-supplier=Digikey; ComponentLink3URL: https://datasheet.octopart.com/CC0603MRX5R6BB226-Yageo-datasheet-137875056.pdf?src-supplier=Future+Electronics; ComponentLink3Description: https://datasheet.octopart.com/CC0603MRX5R6BB226-Yageo-datasheet-137875056.pdf?src-supplier=Future+Electronics; ComponentLink4Description: Link Digikey; ComponentLink4URL: https://www.digikey.com/en/products/detail/yageo/CC0603MRX5R6BB226/5195226
footprint SMD-CAP-0603-YAGEO
pins: 1, 2

## CAP; 22uF; 0805; 25V; SMD; CC0805MKX5R8BB226
designator C?, comment value 22uF  Package: 0805  (hidden comment: 22 µF ±20% 25V Ceramic Capacitor X5R 0805 (2012 Metric))
Ceramic Capacitor, Multilayer, Ceramic, 25V, 20% +Tol, 20% -Tol, X5R, 15% TC, 22uF, Surface Mount, 0805; Manufacturer: Yageo; Manufacturer Part Number: CC0805MKX5R8BB226; Material: 4241ConductorMaterial; Supplier: Future Electronics; Supplier Part Number: 5072123; RoHS: Yes; Category: Ceramic Capacitors; Stock: 90000; Pricing: 3000=0.112, 6000=0.11, 9000=0.0776, 12000=0.077, 15000=0.0753 (USD); Lead Free: 5697LeadFree; Halogen Free: 5694HalogenFree; ComponentLink1URL: http://www.mouser.com/ds/2/447/Yageo_UPY-GP_NP0_16V-to-50V_9-358835.pdf?src-supplier=Mouser; ComponentLink1Description: http://www.mouser.com/ds/2/447/Yageo_UPY-GP_NP0_16V-to-50V_9-358835.pdf?src-supplier=Mouser; ComponentLink2URL: http://www.yageo.com/documents/recent/UPY-GPHC_X5R_4V-to-50V_25.pdf?src-supplier=Digikey; ComponentLink2Description: http://www.yageo.com/documents/recent/UPY-GPHC_X5R_4V-to-50V_25.pdf?src-supplier=Digikey; ComponentLink3URL: https://datasheet.octopart.com/CC0805MKX5R8BB226-Yageo-datasheet-137700085.pdf?src-supplier=Future+Electronics; ComponentLink3Description: https://datasheet.octopart.com/CC0805MKX5R8BB226-Yageo-datasheet-137700085.pdf?src-supplier=Future+Electronics; ComponentLink4URL: https://datasheet.octopart.com/CC0805MKX5R8BB226-Yageo-datasheet-181969996.pdf?src-supplier=Farnell; ComponentLink4Description: https://datasheet.octopart.com/CC0805MKX5R8BB226-Yageo-datasheet-181969996.pdf?src-supplier=Farnell; ComponentLink5URL: https://datasheet.octopart.com/CC0805MKX5R8BB226-Yageo-datasheet-181969996.pdf?src-supplier=Element14; ComponentLink5Description: https://datasheet.octopart.com/CC0805MKX5R8BB226-Yageo-datasheet-181969996.pdf?src-supplier=Element14
footprint SMD-CAP-0805-YAGEO
pins: 1, 2

## CAP; 22uF; 1210; SMD; CC1210KKX5R7BB226
designator C?  value 22uF  Package: 1210
Multilayer Ceramic Capacitor, 22 uF, 16 V, ï¿½ 10%, X5R, 1210 [3225 Metric]; Manufacturer: Yageo; Manufacturer Part Number: CC1210KKX5R7BB226; Supplier: Digikey; Supplier Part Number: 311-2018-1-ND; RoHS: Yes; Category: Ceramic Capacitors; Stock: 6160; Pricing: 1=0.46, 10=0.277, 100=0.1846 (USD); Pins: 2NUMBER; Lead Free: 5697LeadFree; Halogen Free: 5694HalogenFree; ComponentLink1URL: https://www.verical.com/server-webapp/html/getDatasheet?partID=688496&src-supplier=Verical; ComponentLink1Description: https://www.verical.com/server-webapp/html/getDatasheet?partID=688496&src-supplier=Verical; ComponentLink2URL: http://www.farnell.com/datasheets/2167237.pdf?src-supplier=Farnell; ComponentLink2Description: http://www.farnell.com/datasheets/2167237.pdf?src-supplier=Farnell; ComponentLink3URL: http://www.mouser.com/ds/2/447/Yageo_UPY-GP_NP0_16V-to-50V_9-358835.pdf?src-supplier=Mouser; ComponentLink3Description: http://www.mouser.com/ds/2/447/Yageo_UPY-GP_NP0_16V-to-50V_9-358835.pdf?src-supplier=Mouser; ComponentLink4URL: https://datasheet.octopart.com/CC1210KKX5R7BB226-Yageo-datasheet-62067349.pdf?src-supplier=Element14; ComponentLink4Description: https://datasheet.octopart.com/CC1210KKX5R7BB226-Yageo-datasheet-62067349.pdf?src-supplier=Element14; ComponentLink5URL: https://datasheet.octopart.com/CC1210KKX5R7BB226-Yageo-datasheet-137875056.pdf?src-supplier=Future+Electronics; ComponentLink5Description: https://datasheet.octopart.com/CC1210KKX5R7BB226-Yageo-datasheet-137875056.pdf?src-supplier=Future+Electronics; ComponentLink6URL: https://datasheet.octopart.com/CC1210KKX5R7BB226-Yageo-datasheet-158238148.pdf?src-supplier=Farnell; ComponentLink6Description: https://datasheet.octopart.com/CC1210KKX5R7BB226-Yageo-datasheet-158238148.pdf?src-supplier=Farnell; ComponentLink7URL: http://www.yageo.com/documents/recent/UPY-GPHC_X5R_4V-to-50V_25.pdf?src-supplier=Digikey; ComponentLink7Description: http://www.yageo.com/documents/recent/UPY-GPHC_X5R_4V-to-50V_25.pdf?src-supplier=Digikey; ComponentLink8URL: http://www.yageo.com/documents/recent/UPY-GPHC_X5R_4V-to-50V_12.pdf?src-supplier=Avnet; ComponentLink8Description: http://www.yageo.com/documents/recent/UPY-GPHC_X5R_4V-to-50V_12.pdf?src-supplier=Avnet; ComponentLink9URL: https://datasheet.octopart.com/CC1210KKX5R7BB226-Yageo-datasheet-181971175.pdf?src-supplier=Newark; ComponentLink9Description: https://datasheet.octopart.com/CC1210KKX5R7BB226-Yageo-datasheet-181971175.pdf?src-supplier=Newark
footprint SMD-CAP-1210-H2.7-YAGEO
pins: 1, 2

## CAP; 24pF; 50V; 0402; GJM1555C1H240FB01D
designator C?, comment value 24pF  Package: 0402  (hidden comment: Multilayer Ceramic Capacitor, 24 pF, 50 V, ± 1%, C0G (NP0), 0402 [1005 Metric])
Manufacturer: Murata; Manufacturer Part Number: GJM1555C1H240FB01D; Supplier: Newark; Supplier Part Number: 97AH9587; RoHS: Yes; Category: Ceramic Capacitors; Stock: 6335; Pricing: 10=0.06, 25=0.054, 50=0.047, 100=0.041 (USD); ComponentLink1URL: https://datasheet.octopart.com/GJM1555C1H240FB01D-Murata-datasheet-12511495.pdf?src-supplier=TME; ComponentLink1Description: https://datasheet.octopart.com/GJM1555C1H240FB01D-Murata-datasheet-12511495.pdf?src-supplier=TME
footprint SMD-CAP-0402-ME
pins: 1, 2

## CAP; 27pF; 50V; 0402; GJM1555C1H270FB01D
designator C?, comment value 27pF  Package: 0402  (hidden comment: Cap Ceramic 27pF 50V C0G 1% SMD 0402 125°C Paper T/R)
Manufacturer: Murata; Manufacturer Part Number: GJM1555C1H270FB01D; Supplier: Mouser; Supplier Part Number: 81-GJM1555C1H270FB1D; RoHS: Yes; Category: Ceramic Capacitors; Stock: 17547; Pricing: 1=0.15, 10=0.091, 50=0.091, 100=0.051, 1000=0.05, 10000=0.024 (USD); ComponentLink1URL: http://datasheet.octopart.com/GJM1555C1H270FB01D-Murata-datasheet-8819587.pdf?src-supplier=Farnell; ComponentLink1Description: http://datasheet.octopart.com/GJM1555C1H270FB01D-Murata-datasheet-8819587.pdf?src-supplier=Farnell; ComponentLink2URL: http://datasheet.octopart.com/GJM1555C1H270FB01D-Murata-datasheet-8819587.pdf?src-supplier=Digikey; ComponentLink2Description: http://datasheet.octopart.com/GJM1555C1H270FB01D-Murata-datasheet-8819587.pdf?src-supplier=Digikey; ComponentLink3URL: http://search.murata.co.jp/Ceramy/image/img/A01X/G101/ENG/GJM1555C1H270FB01-01.pdf?src-supplier=Digikey; ComponentLink3Description: http://search.murata.co.jp/Ceramy/image/img/A01X/G101/ENG/GJM1555C1H270FB01-01.pdf?src-supplier=Digikey; ComponentLink4URL: http://datasheet.octopart.com/GJM1555C1H270FB01D-Murata-datasheet-8819587.pdf?src-supplier=Newark; ComponentLink4Description: http://datasheet.octopart.com/GJM1555C1H270FB01D-Murata-datasheet-8819587.pdf?src-supplier=Newark; ComponentLink5URL: http://datasheet.octopart.com/GJM1555C1H270FB01D-Murata-datasheet-8819587.pdf?src-supplier=Rs; ComponentLink5Description: http://datasheet.octopart.com/GJM1555C1H270FB01D-Murata-datasheet-8819587.pdf?src-supplier=Rs; ComponentLink6URL: http://datasheet.octopart.com/GJM1555C1H270FB01D-Murata-datasheet-8819587.pdf?src-supplier=Future+Electronics; ComponentLink6Description: http://datasheet.octopart.com/GJM1555C1H270FB01D-Murata-datasheet-8819587.pdf?src-supplier=Future+Electronics; ComponentLink7URL: https://datasheet.octopart.com/GJM1555C1H270FB01D-Murata-datasheet-165579666.pdf?src-supplier=TME; ComponentLink7Description: https://datasheet.octopart.com/GJM1555C1H270FB01D-Murata-datasheet-165579666.pdf?src-supplier=TME; ComponentLink8URL: http://datasheet.octopart.com/GJM1555C1H270FB01D-Murata-datasheet-8819587.pdf?src-supplier=TTI; ComponentLink8Description: http://datasheet.octopart.com/GJM1555C1H270FB01D-Murata-datasheet-8819587.pdf?src-supplier=TTI
footprint SMD-CAP-0402-ME
pins: 1, 2

## CAP; 30pF; 50V; 0402; GJM1555C1H300FB01D
designator C?, comment value 30pF  Package: 0402  (hidden comment: Cap Ceramic 30pF 50V C0G 1% Pad SMD 0402 125C T/R)
Manufacturer: Murata; Manufacturer Part Number: GJM1555C1H300FB01D; Supplier: Mouser; Supplier Part Number: 81-GJM1555C1H300FB1D; RoHS: Yes; Category: Ceramic Capacitors; Stock: 18780; Pricing: 1=0.12, 10=0.072, 50=0.072, 100=0.046, 1000=0.03, 10000=0.019 (USD); ComponentLink1URL: http://search.murata.co.jp/Ceramy/image/img/A01X/G101/ENG/GJM1555C1H300FB01-01.pdf?src-supplier=Digikey; ComponentLink1Description: http://search.murata.co.jp/Ceramy/image/img/A01X/G101/ENG/GJM1555C1H300FB01-01.pdf?src-supplier=Digikey; ComponentLink2URL: https://datasheet.octopart.com/GJM1555C1H300FB01D-Murata-datasheet-12511495.pdf?src-supplier=TME; ComponentLink2Description: https://datasheet.octopart.com/GJM1555C1H300FB01D-Murata-datasheet-12511495.pdf?src-supplier=TME
footprint SMD-CAP-0402-ME
pins: 1, 2

## CAP; 33pF; 50V; CC0603JRNPO9BN330
designator C?, comment value 33pF  Package: 0603  (hidden comment: 33 pF ±5% 50V Ceramic Capacitor C0G, NP0 0603 (1608 Metric))
Multilayer Ceramic Capacitor, 33 pF, 50 V, ï¿½ 5%, C0G (NP0), 0603 [1608 Metric]; Manufacturer: Yageo; Manufacturer Part Number: CC0603JRNPO9BN330; Dielectric Material: 4241ConductorMaterial; Temperature Coefficient: 30ppm/°C; Insulation Resistance: 100GR; Supplier: Future Electronics; Supplier Part Number: 6483168; RoHS: Yes; Category: Ceramic Capacitors; Stock: 360000; Pricing: 4000=0.0033, 16000=0.0032, 60000=0.0031, 160000=0.003, 400000=0.0028 (USD); Mounting Technology: Surface Mount; Case/Package: 0603; Pins: 2; Case Code (Metric): 1608; Case Code (Imperial): 0603; Material: 4241ConductorMaterial; Min Operating Temperature: -55°C; Max Operating Temperature: 125°C; Tolerance: 5%; Packaging: Tape and Reel; Voltage Rating: 50V; Package Quantity: 1; Voltage Rating (DC): 50V; Dielectric: C0G; Termination: SMD/SMT; Voltage: 50V; Series: CC; Voltage Rating (AC): 50V; Length: 1.6mm; Width: 0.031inch; Height: 0.8mm; Thickness: 0.035inch; Depth: 0.8mm; Radiation Hardening: No; Reach SVHC Compliant: No; Lead Free: Lead Free; RoHS Compliant: Yes; Halogen Free: 5694HalogenFree; ComponentLink1URL: https://datasheet.ciiva.com/11786/0900766b8079c870-11786082.pdf?src-supplier=Rs; ComponentLink1Description: https://datasheet.ciiva.com/11786/0900766b8079c870-11786082.pdf?src-supplier=Rs; ComponentLink2URL: https://datasheet.ciiva.com/8033/1443161-8033735.pdf?src-supplier=Element14; ComponentLink2Description: https://datasheet.ciiva.com/8033/1443161-8033735.pdf?src-supplier=Element14; ComponentLink3URL: https://datasheet.ciiva.com/7978/1443161-7978142.pdf?src-supplier=Element14; ComponentLink3Description: https://datasheet.ciiva.com/7978/1443161-7978142.pdf?src-supplier=Element14; ComponentLink4URL: https://datasheet.ciiva.com/46430/1835847-46430155.pdf?src-supplier=Element14; ComponentLink4Description: https://datasheet.ciiva.com/46430/1835847-46430155.pdf?src-supplier=Element14; ComponentLink5URL: https://datasheet.ciiva.com/144/mlccorderingcode-144644.pdf?src-supplier=Digikey; ComponentLink5Description: https://datasheet.ciiva.com/144/mlccorderingcode-144644.pdf?src-supplier=Digikey; ComponentLink6URL: https://datasheet.ciiva.com/144/mlccorderingcode-144643.pdf?src-supplier=Digikey; ComponentLink6Description: https://datasheet.ciiva.com/144/mlccorderingcode-144643.pdf?src-supplier=Digikey; ComponentLink7URL: https://datasheet.ciiva.com/144/mlccorderingcode-144645.pdf?src-supplier=Digikey; ComponentLink7Description: https://datasheet.ciiva.com/144/mlccorderingcode-144645.pdf?src-supplier=Digikey; ComponentLink8URL: https://datasheet.ciiva.com/5426/upy-gp-np0-16v-to-50v-8-5426614.pdf?src-supplier=Mouser; ComponentLink8Description: https://datasheet.ciiva.com/5426/upy-gp-np0-16v-to-50v-8-5426614.pdf?src-supplier=Mouser; ComponentLink9URL: https://datasheet.ciiva.com/8033/1372269-8033734.pdf?src-supplier=Element14; ComponentLink9Description: https://datasheet.ciiva.com/8033/1372269-8033734.pdf?src-supplier=Element14
footprint SMD-CAP-0603-YAGEO
pins: 1, 2

## CAP; 39nF; 0402; 25V; CC0402KRX7R8BB393
designator C?, comment value 39nF  Package: 0402  (hidden comment: 0.039 µF ±10% 25V Ceramic Capacitor X7R 0402 (1005 Metric))
Multilayer Ceramic Capacitors MLCC - SMD/SMT 39nF 25V 10% Ceramic Capacitor; Manufacturer: Yageo; Manufacturer Part Number: CC0402KRX7R8BB393; Dielectric: 1511DielectricType; Supplier: Arrow Electronics; Supplier Part Number: CC0402KRX7R8BB393; RoHS: No; Category: Ceramic Capacitors; Stock: 160000; Pricing: 10000=0.0042, 30000=0.0042, 70000=0.0041 (USD); Case/Package: 343Case; Voltage Rating (DC): 25V; Halogen Free: 5694HalogenFree; Lead Free: 5697LeadFree
footprint SMD-CAP-0402-YAGEO
pins: 1, 2

## CAP; 47uF; 10V; SMD; 10SVP47M
designator C?, comment value 47uF  (hidden comment: 47 µF 10 V Aluminum - Polymer Capacitors Radial, Can - SMD 50mOhm 2000 Hrs @ 105°C)
Cap Aluminum Polymer 47uF 10VDC 20% (6.3 X 5.9mm) SMD 0.05 Ohm 1620mA 2000h 105C T/R; Manufacturer: Panasonic; Manufacturer Part Number: 10SVP47M; ESR (Equivalent Series Resistance): 50mR; Voltage Rating (DC): 10V; Ripple Current: 1.62A; Leakage Current: 94uA; Life (Hours): 2000Hour; Dissipation Factor: 12%; Designer: TVBac; Supplier: Digikey; Supplier Part Number: P16436CT-ND; RoHS: Yes; Category: Aluminum Electrolytic Capacitors; Stock: 33000; Pricing: 1=0.8, 10=0.551, 50=0.501, 100=0.451, 500=0.373 (USD); Mounting Technology: Surface Mount; Case/Package: Radial; Pins: 6; Material: Polymer; Min Operating Temperature: -55°C; Max Operating Temperature: 105°C; Tolerance: 20%; Packaging: Tape and Reel; Package Quantity: 1000; Voltage Rating: 10V; Ripple Current (AC): 1.62A; Termination: SMD/SMT; Voltage: 10V; Series: OS-CON™, SVP; Construction: Cylindrical; Diameter: 6.3mm; Length: 5.9mm; Height: 5.9mm; Reach SVHC Compliant: No; Lead Free: Lead Free; RoHS Compliant: Yes; ComponentLink1URL: https://datasheet.ciiva.com/24345/svp-series-datasheet-24345285.pdf?src-supplier=Onlinecomponents.com; ComponentLink1Description: https://datasheet.ciiva.com/24345/svp-series-datasheet-24345285.pdf?src-supplier=Onlinecomponents.com; ComponentLink2URL: https://datasheet.ciiva.com/48542/svpserie-eng-tds-48542550.pdf?src-supplier=Distrelec; ComponentLink2Description: https://datasheet.ciiva.com/48542/svpserie-eng-tds-48542550.pdf?src-supplier=Distrelec; ComponentLink3URL: https://datasheet.ciiva.com/25767/1734357-25767311.pdf?src-supplier=Farnell; ComponentLink3Description: https://datasheet.ciiva.com/25767/1734357-25767311.pdf?src-supplier=Farnell; ComponentLink4URL: https://datasheet.ciiva.com/22746/1734357-22746143.pdf?src-supplier=Element14; ComponentLink4Description: https://datasheet.ciiva.com/22746/1734357-22746143.pdf?src-supplier=Element14
footprint SMD-DxLxW-6.3x6.6x6.6-PEC
pins: 1, 2